# EAGLE library part CONN_FFC_1X31 (library GPLIB_CONN)
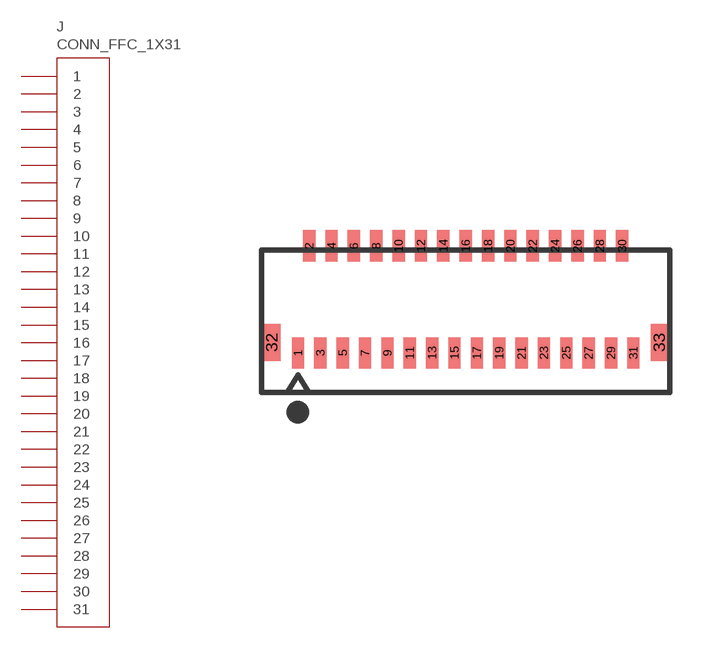
[diagram p64: symbol with the pads of CONN_FFC_1X31_0.3MM_SM_RA_FH26W-31S-0.3SHW; footprint CONN_FFC_1X31_0.3MM_SM_RA_FH26W-31S-0.3SHW]

Designator prefix J

## CONN_FFC_1X31_0.3MM_SM_RA_FH26W-31S-0.3SHW  [CONN_FFC_1X31_0.3MM_SM_RA_FH26W-31S-0.3SHW]
1  1  pas
2  2  pas
3  3  pas
4  4  pas
5  5  pas
6  6  pas
7  7  pas
8  8  pas
9  9  pas
10  10  pas
11  11  pas
12  12  pas
13  13  pas
14  14  pas
15  15  pas
16  16  pas
17  17  pas
18  18  pas
19  19  pas
20  20  pas
21  21  pas
22  22  pas
23  23  pas
24  24  pas
25  25  pas
26  26  pas
27  27  pas
28  28  pas
29  29  pas
30  30  pas
31  31  pas

## Footprint CONN_FFC_1X31_0.3MM_SM_RA_FH26W-31S-0.3SHW (pad centres in mm)
smd 0.33 x 0.838: 1 -4.5,-1.438; 2 -4.2,1.438; 3 -3.9,-1.438; 4 -3.6,1.438; 5 -3.3,-1.438; 6 -3,1.438; 7 -2.7,-1.438; 8 -2.4,1.438; 9 -2.1,-1.438; 10 -1.8,1.438; 11 -1.5,-1.438; 12 -1.2,1.438; 13 -0.9,-1.438; 14 -0.6,1.438; 15 -0.3,-1.438; 16 0,1.438; 17 0.3,-1.438; 18 0.6,1.438; 19 0.9,-1.438; 20 1.2,1.438; 21 1.5,-1.438; 22 1.8,1.438; 23 2.1,-1.438; 24 2.4,1.438; 25 2.7,-1.438; 26 3,1.438; 27 3.3,-1.438; 28 3.6,1.438; 29 3.9,-1.438; 30 4.2,1.438; 31 4.5,-1.438
smd 0.457 x 0.991: 32 -5.2,-1.158; 33 5.2,-1.158